# Altium integrated library BDX53C.IntLib: 1 symbol
Pins are listed as number, name and electrical type; pins without a type are passive.

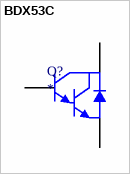
[diagram p0: symbol BDX53C]

## BDX53C
designator Q?
datasheet: https://www.mouser.es/datasheet/2/389/cd00000902-1795594.pdf; ComponentLink1Description: mouser; ComponentLink1URL: https://www.mouser.es/ProductDetail/STMicroelectronics/BDX53C?qs=tZUCD5p2VWpImvChS%252BmGgg%3D%3D
footprint TO220-3
pins: 1 C, 2 B, 3 E